# Altium footprint library SRR1003220M.PcbLib: 1 footprints
Each footprint in its own frame and in the unit in brackets; x right, y up, seen from the top. Pads: shape width x height; smd on the part's side, far side on the other; paste and mask are expansions set on the pad; w line width, h text height; cw(c..) or ccw(c..) is an arc to the next point about the centre after c.
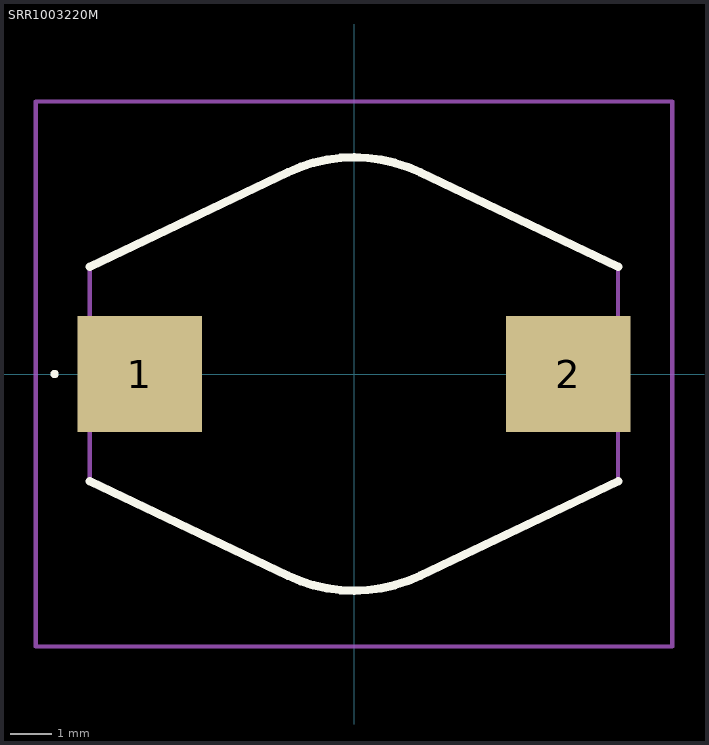
[diagram p0: the footprint, top view; thin cyan lines are the x and y axes]

## SRR1003220M [mm]
pads (2):
  rect 3x2.8 smd: 1(-5.15,0) 2(5.15,0)
Top Overlay:
  lines w0.1: -7.25,0 cw(c-7.2,0) -7.15,0 ; -7.25,0 -7.25,0 ; -7.25,0 ccw(c-7.2,0) -7.15,0 ; -7.15,0 -7.15,0
  lines w0.2: -6.35,-2.575 -1.588,-4.85 ; -6.35,2.575 -1.588,4.85 ; -1.586,-4.851 ccw(c0,-1.526) 1.592,-4.848 ; -1.586,4.851 cw(c0,1.526) 1.592,4.848 ; 1.588,-4.85 6.352,-2.575 ; 1.588,4.85 6.35,2.575 ; -1.588,-4.85 -1.588,-4.85 ; -1.588,4.85 -1.588,4.85
Mechanical 15:
  lines w0.1: -6.352,2.575 -6.352,-2.575 -1.588,-4.85 ; -6.35,2.575 -1.588,4.85 ; -1.592,4.848 cw(c0,1.526) 1.586,4.851 ; -1.586,-4.851 ccw(c0,-1.525) 1.592,-4.848 ; 1.588,-4.85 6.35,-2.575 6.35,2.575 1.588,4.85 ; -1.588,-4.85 -1.588,-4.85 ; 1.588,4.85 1.588,4.85
Mechanical 20:
  lines w0.1: -7.65,-6.552 7.65,-6.552 7.65,6.552 -7.65,6.552 -7.65,-6.552